# EAGLE library part HB100 (library microbuilder)
HB100 Miniature Microwave Motion Sensor
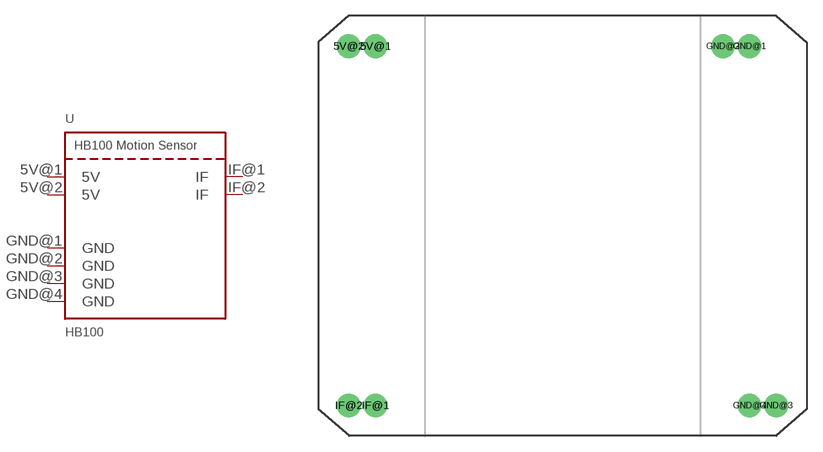
[diagram p183: symbol with the pads of HB100; footprint HB100]

Designator prefix U

## HB100  [HB100]
5V@1  5V
5V@2  5V
GND@1  GND
GND@2  GND
GND@3  GND
GND@4  GND
IF@1  IF
IF@2  IF

## Footprint HB100 (pad centres in mm)
drill 1.5: 5V@1 -17.81,15.83; 5V@2 -20.35,15.83; GND@1 17.81,15.83; GND@2 15.27,15.83; GND@3 20.35,-18.37; GND@4 17.81,-18.37; IF@1 -17.81,-18.37; IF@2 -20.35,-18.37